# Altium schematic symbol library Pin_MilMax7911.Schlib: 1 symbol
Pins are listed as number, name and electrical type; pins without a type are passive.

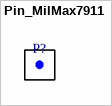
[diagram p0: symbol Pin_MilMax7911]

## Pin_MilMax7911
designator P?
footprint PIN_7911
pins: 1 PIN? "Mill-max 7911-0-15-20-86-14-11-0"